# Altium footprint library PGS.PcbLib: 34 footprints (part 1 of 3)
Each footprint in its own frame and in the unit in brackets; x right, y up, seen from the top. Pads: shape width x height; smd on the part's side, far side on the other; paste and mask are expansions set on the pad; w line width, h text height; cw(c..) or ccw(c..) is an arc to the next point about the centre after c.
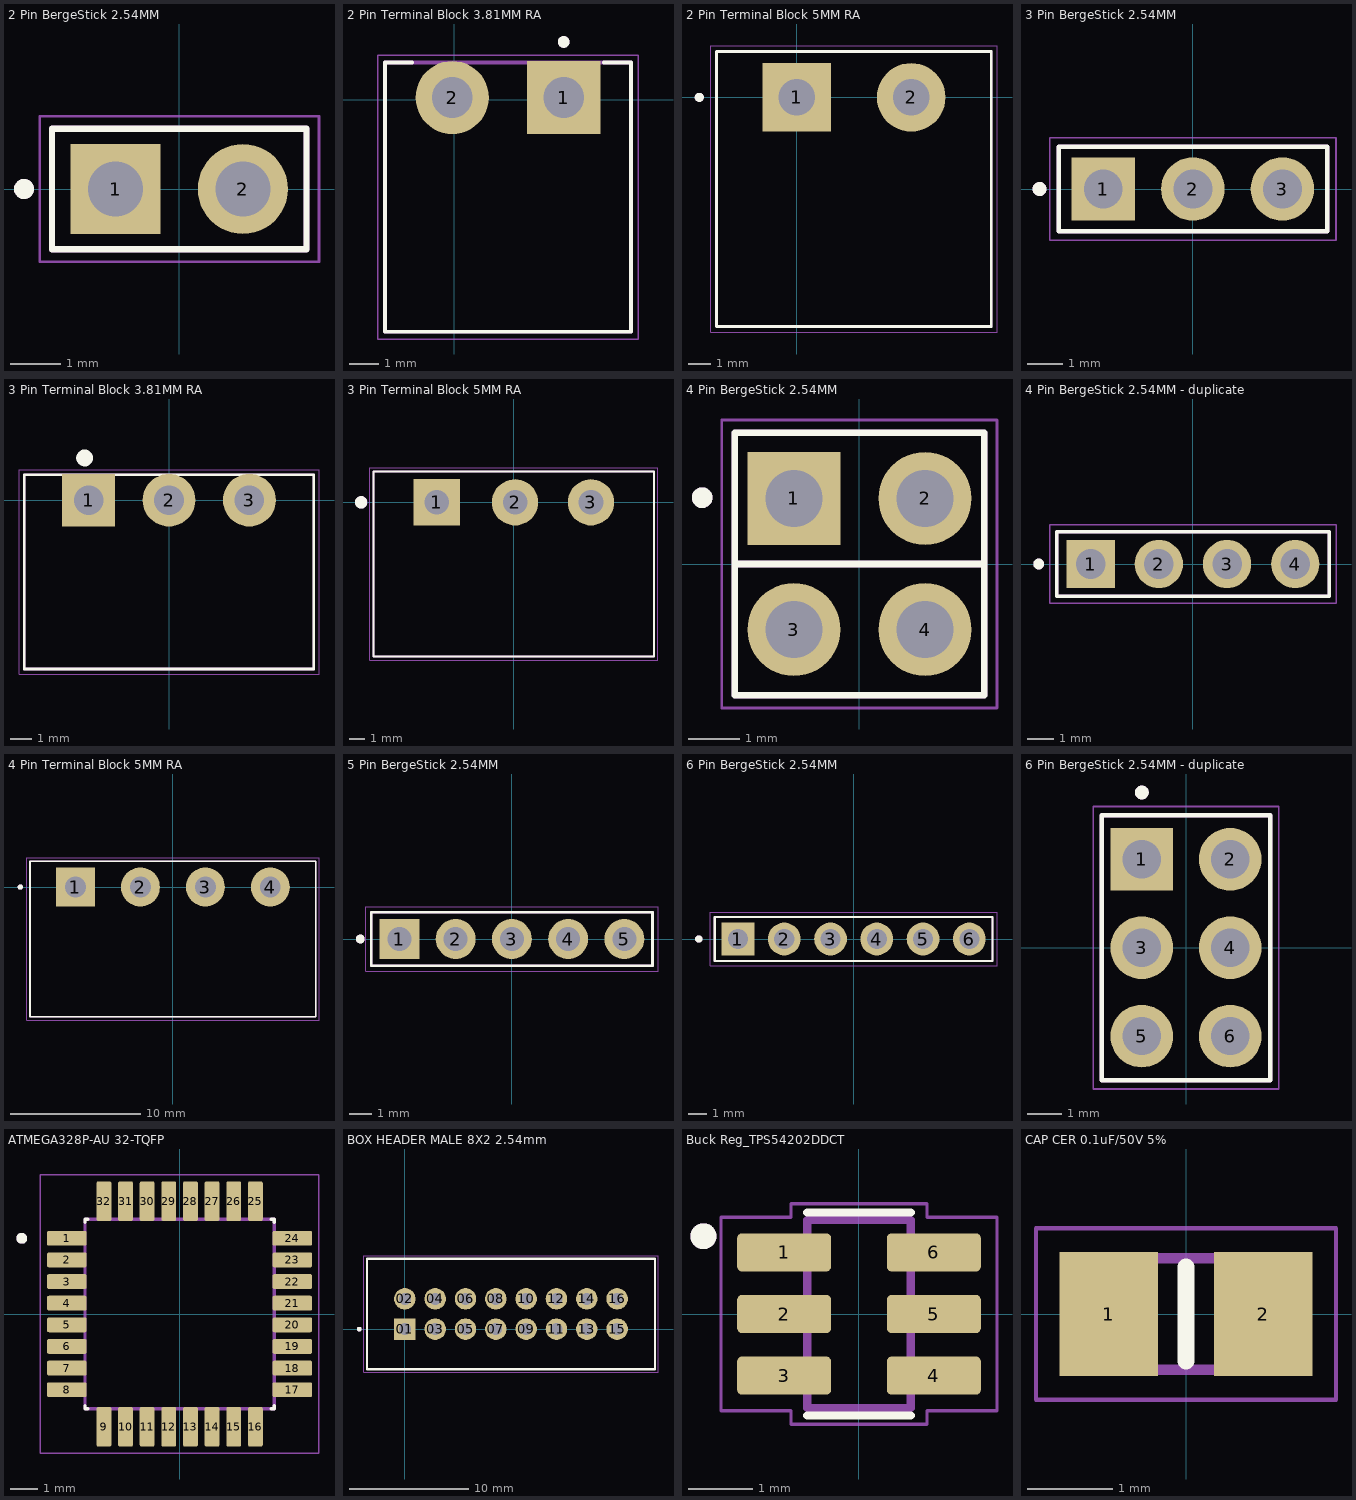
[diagram p0: the footprints below, top view; thin cyan lines are the x and y axes]

## 2 Pin BergeStick 2.54MM [mm] "2 Pin 2Pos THT S/T BergeStick 2.54MM Amphenol 68000-402HLF 3A AMPHENOL_68000-402HLF"
height 10.8
pads (2):
  rect 1.8x1.8 hole 1.1: 1(-1.27,0)
  round 1.8 hole 1.1: 2(1.27,0)
Top Overlay:
  circle w0.2: c-3.1,0 r0.1
  lines w0.127: -2.54,-1.205 2.54,-1.205 2.54,1.205 -2.54,1.205 -2.54,-1.205
Mechanical 13:
  circle w0.2: c-3.1,0 r0.1
  lines w0.127: -2.54,-1.205 2.54,-1.205 2.54,1.205 -2.54,1.205 -2.54,-1.205
Mechanical 15:
  lines w0.05: -2.79,-1.455 2.79,-1.455 2.79,1.455 -2.79,1.455 -2.79,-1.455
3D body "step_temp.STEP": height 8.39, standoff -2.41, extent -2.54,-1.205 2.54,1.205

## 2 Pin Terminal Block 3.81MM RA [mm] "2 Pin Terminal Block HDR 3.81MM THT RA TBP02R138102BE"
height 7.2
pads (2):
  rect 2.5x2.5 hole 1.4: 1(3.734,0.076)
  round 2.5 hole 1.4: 2(-0.076,0.076)
Top Overlay:
  circle w0.2: c3.734,1.976 r0.1
  lines w0.127: -1.446,1.276 -2.376,1.276 -2.376,-7.924 6.034,-7.924 6.034,1.276 5.104,1.276
Mechanical 13:
  circle w0.2: c3.734,1.976 r0.1
  lines w0.127: -2.376,-7.924 6.034,-7.924 6.034,1.276 -2.376,1.276 -2.376,-7.924
Mechanical 15:
  lines w0.05: -2.626,-8.174 6.284,-8.174 6.284,1.526 -2.626,1.526 -2.626,-8.174
3D body "step_temp.STEP": height 7.2, standoff -3.5, extent -2.39,-7.953 6.02,1.247

## 2 Pin Terminal Block 5MM RA [mm] "2 Pin Terminal Block HDR 5MM THT RA_OQ0271510000G"
height 8.5
pads (2):
  rect 3x3 hole 1.6: 1(0,0)
  round 3 hole 1.6: 2(5,0)
Top Overlay:
  circle w0.2: c-4.25,0 r0.1
  lines w0.127: -3.5,-10 -3.5,2 8.5,2 8.5,-10 -3.5,-10
Mechanical 13:
  circle w0.2: c-4.25,0 r0.1
  lines w0.127: -3.5,-10 -3.5,2 8.5,2 8.5,-10 -3.5,-10
Mechanical 15:
  lines w0.05: -3.75,-10.25 -3.75,2.25 8.75,2.25 8.75,-10.25 -3.75,-10.25
3D body "step_temp.STEP": height 8.5, standoff -3.5, extent -3.5,-10 8.5,2

## 3 Pin BergeStick 2.54MM [mm] "3 Pin 3Pos THT S/T BergeStick 2.54MM Amphenol 68001-403HLF 3A"
height 8.58
pads (3):
  rect 1.8x1.8 hole 1.1: 1(-2.54,0)
  round 1.8 hole 1.1: 2(0,0) 3(2.54,0)
Top Overlay:
  circle w0.2: c-4.35,0 r0.1
  lines w0.127: -3.81,-1.205 -3.81,1.205 3.81,1.205 3.81,-1.205 -3.81,-1.205
Mechanical 13:
  circle w0.2: c-4.35,0 r0.1
  lines w0.127: -3.81,-1.205 -3.81,1.205 3.81,1.205 3.81,-1.205 -3.81,-1.205
Mechanical 15:
  lines w0.05: -4.06,-1.455 -4.06,1.455 4.06,1.455 4.06,-1.455 -4.06,-1.455
3D body "step_temp.STEP": height 8.38, standoff -3.05, extent -3.81,-1.205 3.81,1.205

## 3 Pin Terminal Block 3.81MM RA [mm] "3 Pin Terminal Block HDR 3.81MM THT RA 284513-3"
pads (3):
  rect 2.5x2.5 hole 1.4: 1(-3.81,0)
  round 2.5 hole 1.4: 2(0,0) 3(3.81,0)
Top Overlay:
  circle w0.4: c-4,2 r0.2
  lines w0.127: -6.86,-8 -6.86,1.2 6.86,1.2 6.86,-8 -6.86,-8
Mechanical 13:
  lines w0.127: -6.86,-8 6.86,-8 6.86,1.2 -6.86,1.2 -6.86,-8
Mechanical 15:
  lines w0.05: -7.11,-8.25 7.11,-8.25 7.11,1.45 -7.11,1.45 -7.11,-8.25
3D body "step_temp.STEP": height 7.3, standoff -3.4, extent -6.86,-8.001 6.86,1.199

## 3 Pin Terminal Block 5MM RA [mm] "3 Pin Terminal Block HDR 5MM THT RA 231-433_001-000"
pads (3):
  rect 3x3 hole 1.6: 1(-5,0)
  round 3 hole 1.6: 2(0.08,0) 3(5,0)
Top Overlay:
  circle w0.4: c-9.91,0 r0.2
  lines w0.127: -9.1,-10 -9.1,2 9.1,2 9.1,-10 -9.1,-10
Mechanical 13:
  circle w0.4: c-9.906,0 r0.2
  lines w0.127: -9.1,-10 9.1,-10 9.1,2 -9.1,2 -9.1,-10
Mechanical 15:
  lines w0.05: -9.35,-10.25 -9.35,2.25 9.35,2.25 9.35,-10.25 -9.35,-10.25
3D body "2342079-3--3DModel-STEP-1.STEP": height 8.97, standoff -2.28, extent -8.418,-10.064 8.382,1.936

## 4 Pin BergeStick 2.54MM [mm] "4 Pin 2X2Pos THT S/T BergeStick 2.54MM Amphenol 67997-104HLF 3A AMPHENOL_67997-104HLF"
pads (4):
  rect 1.8x1.8 hole 1.1: 1(-1.27,1.27)
  round 1.8 hole 1.1: 2(1.27,1.27) 3(-1.27,-1.27) 4(1.27,-1.27)
Top Overlay:
  circle w0.2: c-3.048,1.285 r0.1
  lines w0.127: -2.413,0 2.413,0 ; -2.415,-2.54 2.415,-2.54 2.415,2.54 -2.415,2.54 -2.415,-2.54
Mechanical 13:
  circle w0.2: c-3.048,1.285 r0.1
  lines w0.127: -2.413,0 2.413,0 ; -2.415,-2.54 2.415,-2.54 ; -2.415,-2.54 -2.415,2.54 ; -2.415,-2.54 2.415,-2.54 ; -2.415,2.54 2.415,2.54 ; -2.415,2.54 2.415,2.54 ; 2.415,-2.54 2.415,2.54 ; 2.415,-2.54 2.415,2.54
Mechanical 15:
  lines w0.05: -2.665,-2.79 2.665,-2.79 2.665,2.79 -2.665,2.79 -2.665,-2.79
3D body "step_temp.STEP": height 8.38, standoff -3.05, extent -2.415,-2.54 2.415,2.54

## 4 Pin BergeStick 2.54MM - duplicate [mm] "4 Pin 4Pos THT S/T BergeStick 2.54MM Amphenol 68001-104HLF 3A AMPHENOL_68001-104HLF"
height 8.89
pads (4):
  rect 1.8x1.8 hole 1.1: 1(-3.81,0)
  round 1.8 hole 1.1: 2(-1.27,0) 3(1.27,0) 4(3.81,0)
Top Overlay:
  circle w0.2: c-5.75,0 r0.1
  lines w0.127: -5.08,-1.205 -5.08,1.205 5.08,1.205 5.08,-1.205 -5.08,-1.205
Mechanical 13:
  circle w0.2: c-5.75,0 r0.1
  lines w0.127: -5.08,-1.205 -5.08,1.205 5.08,1.205 5.08,-1.205 -5.08,-1.205
Mechanical 15:
  lines w0.05: -5.33,-1.455 -5.33,1.455 5.33,1.455 5.33,-1.455 -5.33,-1.455
3D body "step_temp.STEP": height 8.38, standoff -3.05, extent -5.08,-1.205 5.08,1.205

## 4 Pin Terminal Block 5MM RA [mm] "4 Pin Terminal Block HDR 5MM THT RA OQ0471510000G"
pads (4):
  rect 3x3 hole 1.6: 1(-7.5,0)
  round 3 hole 1.6: 2(-2.5,0) 3(2.5,0) 4(7.5,0)
Top Overlay:
  circle w0.2: c-11.75,0 r0.1
  lines w0.127: -11,-10 -11,2 11,2 11,-10 -11,-10
Mechanical 13:
  circle w0.2: c-11.75,0 r0.1
  lines w0.127: -11,-10 -11,2 11,2 11,-10 -11,-10
Mechanical 15:
  lines w0.05: -11.25,-10.25 -11.25,2.25 11.25,2.25 11.25,-10.25 -11.25,-10.25
3D body "796700-4--3DModel-STEP-510211.STEP": height 8.5, standoff -3.5, extent -11.254,-10.064 10.746,1.936

## 5 Pin BergeStick 2.54MM [mm] "5 Pin 5Pos THT S/T BergeStick 2.54MM Amphenol 68002-405HLF 3A AMPHENOL_68002-405HLF"
height 8.58
pads (5):
  rect 1.8x1.8 hole 1.092: 1(-5.08,0)
  round 1.8 hole 1.092: 2(-2.54,0) 3(0,0) 4(2.54,0) 5(5.08,0)
Top Overlay:
  circle w0.2: c-6.85,0 r0.1
  lines w0.127: -6.35,-1.206 -6.35,1.206 6.35,1.206 6.35,-1.206 -6.35,-1.206
Mechanical 13:
  circle w0.2: c-6.85,0 r0.1
  lines w0.127: -6.35,-1.206 -6.35,1.206 6.35,1.206 6.35,-1.206 -6.35,-1.206
Mechanical 15:
  lines w0.05: -6.6,-1.456 6.6,-1.456 6.6,1.456 -6.6,1.456 -6.6,-1.456
3D body "step_temp.STEP": height 8.38, standoff -3.81, extent -6.35,-1.205 6.35,1.205

## 6 Pin BergeStick 2.54MM [mm] "6 Pin 6Pos THT S/T BergeStick 2.54MM Amphenol 68604-406HLF 3A AMPHENOL_68604-406HLF"
height 12.198
pads (6):
  rect 1.8x1.8 hole 1.1: 1(-6.35,0)
  round 1.8 hole 1.1: 2(-3.81,0) 3(-1.27,0) 4(1.27,0) 5(3.81,0) 6(6.35,0)
Top Overlay:
  circle w0.2: c-8.5,0 r0.1
  lines w0.127: -7.62,-1.205 -7.62,1.205 7.62,1.205 7.62,-1.205 -7.62,-1.205
Mechanical 13:
  circle w0.2: c-8.5,0 r0.1
  lines w0.127: -7.62,-1.205 -7.62,1.205 7.62,1.205 7.62,-1.205 -7.62,-1.205
Mechanical 15:
  lines w0.05: -7.87,-1.455 7.87,-1.455 7.87,1.455 -7.87,1.455 -7.87,-1.455
3D body "step_temp.STEP": height 12.19, standoff -3.05, extent -7.62,-1.205 7.62,1.205

## 6 Pin BergeStick 2.54MM - duplicate [mm] "6 Pin 3X3Pos THT S/T BergeStick 2.54MM Amphenol 69192-406HLF AMPHENOL_69192-406HLF"
pads (6):
  rect 1.8x1.8 hole 1.1: 1(-1.27,2.54)
  round 1.8 hole 1.1: 2(1.27,2.54) 3(-1.27,0) 4(1.27,0) 5(-1.27,-2.54) 6(1.27,-2.54)
Top Overlay:
  circle w0.2: c-1.27,4.46 r0.1
  lines w0.127: -2.415,-3.81 -2.415,3.81 2.415,3.81 2.415,-3.81 -2.415,-3.81
Mechanical 13:
  circle w0.2: c-1.27,4.46 r0.1
  lines w0.127: -2.415,-3.81 2.415,-3.81 ; -2.415,-3.81 -2.415,3.81 ; -2.415,-3.81 2.415,-3.81 ; -2.415,3.81 2.415,3.81 ; -2.415,3.81 2.415,3.81 ; 2.415,-3.81 2.415,3.81 ; 2.415,-3.81 2.415,3.81
Mechanical 15:
  lines w0.05: -2.665,-4.06 -2.665,4.06 2.665,4.06 2.665,-4.06 -2.665,-4.06
3D body "step_temp.STEP": height 8.38, standoff -3.05, extent -2.415,-3.81 2.415,3.81

## ATMEGA328P-AU 32-TQFP [mm] "AVR AVRÂ® ATmega Microcontroller IC 8-Bit 20MHz 32KB (16K x 16) FLASH 32-TQFP SMT (7x7)QFP80P900X900X120-32N"
height 1.2
pads (32):
  rrect25% 1.47x0.55 smd: 1(-4.17,2.8) 2(-4.17,2) 3(-4.17,1.2) 4(-4.17,0.4) 5(-4.17,-0.4) 6(-4.17,-1.2) 7(-4.17,-2) 8(-4.17,-2.8) 17(4.17,-2.8) 18(4.17,-2) 19(4.17,-1.2) 20(4.17,-0.4) 21(4.17,0.4) 22(4.17,1.2) 23(4.17,2) 24(4.17,2.8)
  rrect25% 0.55x1.47 smd: 9(-2.8,-4.17) 10(-2,-4.17) 11(-1.2,-4.17) 12(-0.4,-4.17) 13(0.4,-4.17) 14(1.2,-4.17) 15(2,-4.17) 16(2.8,-4.17) 25(2.8,4.17) 26(2,4.17) 27(1.2,4.17) 28(0.4,4.17) 29(-0.4,4.17) 30(-1.2,4.17) 31(-2,4.17) 32(-2.8,4.17)
Top Overlay:
  circle w0.2: c-5.84,2.8 r0.1
  lines w0.127: -3.5,-3.395 -3.5,-3.5 -3.395,-3.5 ; -3.5,3.395 -3.5,3.5 -3.395,3.5 ; 3.395,-3.5 3.5,-3.5 3.5,-3.395 ; 3.395,3.5 3.5,3.5 3.5,3.395
Mechanical 13:
  circle w0.2: c-5.84,2.8 r0.1
  lines w0.127: -3.5,-3.5 3.5,-3.5 3.5,3.5 -3.5,3.5 -3.5,-3.5
Mechanical 15:
  lines w0.05: -5.155,-5.155 5.155,-5.155 5.155,5.155 -5.155,5.155 -5.155,-5.155
3D body "step_temp.STEP": height 1.2, standoff 0, extent -4.5,-4.5 4.5,4.5

## BOX HEADER MALE 8X2 2.54mm [mm] "THT S/T Straight BOX HEADER MALE 8X2 2.54mm 16 pin"
pads (16):
  rect 1.8x1.8 hole 1.02: 01(0,0)
  round 1.8 hole 1.02: 02(0,2.54) 03(2.54,0) 04(2.54,2.54) 05(5.08,0) 06(5.08,2.54) 07(7.62,0) 08(7.62,2.54) 09(10.16,0) 10(10.16,2.54) 11(12.7,0) 12(12.7,2.54) 13(15.24,0) 14(15.24,2.54) 15(17.78,0) 16(17.78,2.54)
Top Overlay:
  circle w0.2: c-3.825,0 r0.1
  lines w0.2: -3.175,-3.365 20.955,-3.365 20.955,5.905 -3.175,5.905 -3.175,-3.365
Mechanical 13:
  circle w0.2: c-3.825,0 r0.1
  lines w0.1: -3.175,-3.365 20.955,-3.365 20.955,5.905 -3.175,5.905 -3.175,-3.365
Mechanical 15:
  lines w0.05: -3.425,-3.615 21.205,-3.615 21.205,6.155 -3.425,6.155 -3.425,-3.615
3D body "52601-S16-4LF--3DModel-STEP-510211.STEP": height 9.53, standoff -3.3, extent -4.953,-3.048 22.733,5.715

## Buck Reg_TPS54202DDCT [mm] "4.5V to 28V Input, 2A Output, EMI Friendly Synchronous Step-Down SMT Converter TPS54202DDCT"
pads (6):
  rrect25% 1.45x0.59 smd: 1(-1.155,0.95) 2(-1.155,0) 3(-1.155,-0.95) 4(1.155,-0.95) 5(1.155,0) 6(1.155,0.95)
Top Overlay:
  circle w0.2: c-2.4,1.2 r0.1
  lines w0.127: -0.8,-1.565 0.8,-1.565 ; -0.8,1.565 0.8,1.565
Mechanical 13:
  circle w0.2: c-2.4,1.2 r0.1
  lines w0.127: -0.8,-1.45 0.8,-1.45 0.8,1.45 -0.8,1.45 -0.8,-1.45
Mechanical 15:
  lines w0.05: -2.13,-1.495 -1.05,-1.495 -1.05,-1.7 1.05,-1.7 1.05,-1.495 2.13,-1.495 2.13,1.495 1.05,1.495 1.05,1.7 -1.05,1.7 -1.05,1.495 -2.13,1.495 -2.13,-1.495
3D body "step_temp.STEP": height 1.1, standoff 0, extent -1.4,-1.45 1.4,1.45

## CAP CER 0.1uF/50V 5% [mm] "CAP CER 0.1uF/50V  Ceramic Capacitor X7R 0805 (2012 Metric) SMT"
pads (2):
  rect 1.15x1.45 smd: 1(-0.9,0) 2(0.9,0)
Top Overlay:
  lines w0.2: 0,-0.55 0,0.55
Mechanical 13:
  region: -0.5,-0.65 -1,-0.65 -1,0.65 -0.5,0.65
  region: 1,-0.65 0.5,-0.65 0.5,0.65 1,0.65
  lines w0.127: -1,-0.65 1,-0.65 1,0.65 -1,0.65 -1,-0.65
Mechanical 15:
  lines w0.05: -1.75,-1 1.75,-1 1.75,1 -1.75,1 -1.75,-1
3D body "step_temp.STEP": height 1.35, standoff 0, extent -1,-0.625 1,0.625